# Altium schematic symbol library 1725672.SchLib: 1 symbol
Pins are listed as number, name and electrical type; pins without a type are passive.

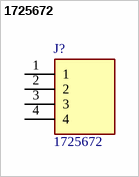
[diagram p0: symbol 1725672]

## 1725672
designator J?
4 way vertical PCB terminal,6A 63V Phoenix Contact Non-Fused Terminal Block, 4 Way, Solder Terminals, 26 ??? 20 AWG Through Hole, Nylon, 63 V; Geometry.Height: 8.65mm; Manufacturer_Name: Phoenix Contact; Manufacturer_Part_Number: 1725672; Mouser Part Number: 651-1725672; Mouser Price/Stock: https://www.mouser.co.uk/ProductDetail/Phoenix-Contact/1725672?qs=Ul7CXFMnlWXX93F9bOV2pQ%3D%3D; Arrow Part Number: 1725672; Arrow Price/Stock: https://www.arrow.com/en/products/1725672/phoenix-contact?region=nac; Datasheet Link: https://datasheet.datasheetarchive.com/originals/distributors/SFDatasheet-2/sf-00050602.pdf
footprint 1725672
pins: 1, 2, 3, 4